# Altium footprint library Embedded.PcbLib: 34 footprints (part 2 of 3)
Each footprint in its own frame and in the unit in brackets; x right, y up, seen from the top. Pads: shape width x height; smd on the part's side, far side on the other; paste and mask are expansions set on the pad; w line width, h text height; cw(c..) or ccw(c..) is an arc to the next point about the centre after c.
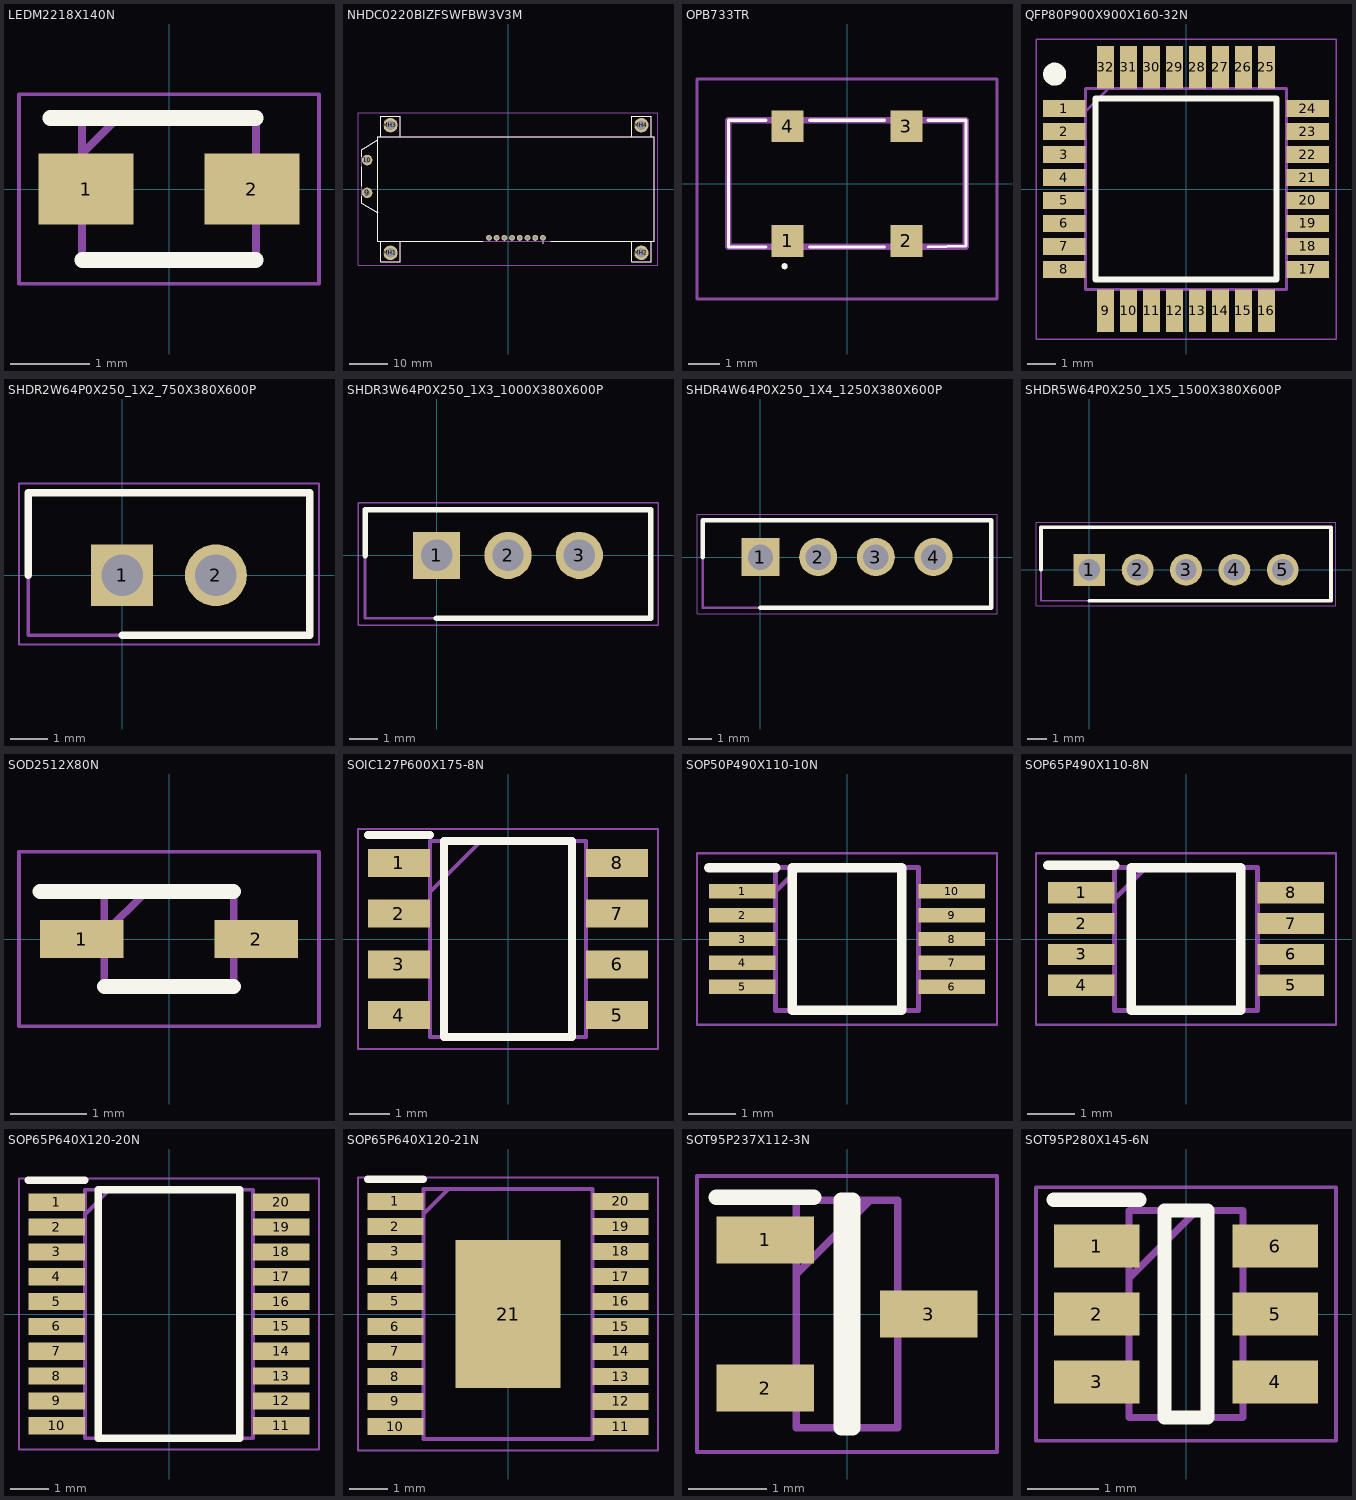
[diagram p1: the footprints below, top view; thin cyan lines are the x and y axes]

## LEDM2218X140N [mm]
pads (2):
  rect 1.2x0.9 smd: 1(-1.05,0) 2(1.05,0)
Top Overlay:
  lines w0.2: -1.5,0.9 1.1,0.9 ; -1.1,-0.9 1.1,-0.9
Mechanical 13:
  lines w0.1: -1.1,0.45 -0.65,0.9 ; -1.1,-0.9 1.1,-0.9 1.1,0.9 -1.1,0.9 -1.1,-0.9
Mechanical 15:
  lines w0.05: -1.9,-1.2 1.9,-1.2 1.9,1.2 -1.9,1.2 -1.9,-1.2

## NHDC0220BIZFSWFBW3V3M [mm]
pads (14):
  round 1.524 hole 0.98: 1(9.058,-12.65) 2(7.058,-12.65) 3(5.058,-12.65) 4(3.058,-12.65) 5(1.058,-12.65) 6(-0.942,-12.65) 7(-2.942,-12.65) 8(-4.942,-12.65)
  round 2.73 hole 1.82: 9(-36.492,-1) 10(-36.492,7.5)
  round 3.75 hole 2.5: MH1(-30.442,-16.55) MH2(34.558,-16.55) MH3(-30.442,16.55) MH4(34.558,16.55)
Top Overlay:
  lines w0.1: -37.843,-1.83 -37.843,-3.66 -33.742,-6.2 ; -37.843,0.71 -37.843,5.79 ; -37.843,8.33 -37.843,10.16 -33.742,12.7 ; -32.942,-13.55 -32.942,-18.8 -27.942,-18.8 -27.942,-13.55 ; -32.942,13.41 -32.942,18.8 -27.942,18.8 -27.942,13.55 ; -6.516,-13.55 -33.742,-13.55 -33.742,13.55 37.858,13.55 37.858,-13.55 11.088,-13.55 ; 32.058,-13.55 32.058,-18.8 37.058,-18.8 37.058,-13.55 ; 32.058,13.55 32.058,18.8 37.058,18.8 37.058,13.55
  lines w0.2: 8.958,-13.95 cw(c9.058,-13.95) 9.158,-13.95 cw(c9.058,-13.95) 8.958,-13.95
Mechanical 13:
  lines w0.2: -33.742,-6.2 -37.843,-3.66 -37.843,10.16 -33.742,12.7 ; -32.942,-13.55 -32.942,-18.8 -27.942,-18.8 -27.942,-13.55 ; -32.942,13.55 -32.942,18.8 -27.942,18.8 -27.942,13.55 ; 32.058,-13.55 32.058,-18.8 37.058,-18.8 37.058,-13.55 ; 32.058,13.55 32.058,18.8 37.058,18.8 37.058,13.55 ; -33.742,-13.55 37.858,-13.55 37.858,13.55 -33.742,13.55 -33.742,-13.55
Mechanical 15:
  lines w0.1: -38.858,-19.8 38.858,-19.8 38.858,19.8 -38.858,19.8 -38.858,-19.8

## OPB733TR [mm]
pads (4):
  rect 1.02x1.02 smd: 1(-1.905,-1.84) 2(1.905,-1.84) 3(1.905,1.84) 4(-1.905,1.84)
Top Overlay:
  lines w0.1: -2.6,-2.03 -3.8,-2.03 -3.8,2.03 -2.6,2.03 ; -1.2,-2.03 1.2,-2.03 ; -1.2,2.03 1.2,2.03 ; 2.6,-2.03 3.81,-2 3.81,2.03 2.6,2.03 ; -2,-2.7 ccw(c-2,-2.65) -2,-2.6 ccw(c-2,-2.65) -2,-2.7
Mechanical 13:
  lines w0.2: -3.81,-2.03 -3.81,2.03 3.81,2.03 3.81,-2.03 -3.81,-2.03
Mechanical 15:
  lines w0.1: -4.81,-3.7 -4.81,3.35 4.81,3.35 4.81,-3.7 -4.81,-3.7
3D body "OPB733TR.stp": height 2.99, standoff 0, extent -3.81,-2.03 3.81,2.03

## QFP80P900X900X160-32N [mm]
pads (32):
  rect 1.475x0.6 smd: 1(-4.238,2.8) 2(-4.238,2) 3(-4.238,1.2) 4(-4.238,0.4) 5(-4.238,-0.4) 6(-4.238,-1.2) 7(-4.238,-2) 8(-4.238,-2.8) 17(4.238,-2.8) 18(4.238,-2) 19(4.238,-1.2) 20(4.238,-0.4) 21(4.238,0.4) 22(4.238,1.2) 23(4.238,2) 24(4.238,2.8)
  rect 0.6x1.475 smd: 9(-2.8,-4.238) 10(-2,-4.238) 11(-1.2,-4.238) 12(-0.4,-4.238) 13(0.4,-4.238) 14(1.2,-4.238) 15(2,-4.238) 16(2.8,-4.238) 25(2.8,4.238) 26(2,4.238) 27(1.2,4.238) 28(0.4,4.238) 29(-0.4,4.238) 30(-1.2,4.238) 31(-2,4.238) 32(-2.8,4.238)
Top Overlay:
  circle w0.4: c-4.575,4 r0.2
  lines w0.2: -3.15,-3.15 3.15,-3.15 3.15,3.15 -3.15,3.15 -3.15,-3.15
Mechanical 13:
  lines w0.1: -3.5,2.7 -2.7,3.5 ; -3.5,-3.5 3.5,-3.5 3.5,3.5 -3.5,3.5 -3.5,-3.5
Mechanical 15:
  lines w0.05: -5.225,-5.225 5.225,-5.225 5.225,5.225 -5.225,5.225 -5.225,-5.225
3D body "STM32F042K4T6.stp": height 1.6, standoff 0, extent -4.5,-4.5 4.5,4.5

## SHDR2W64P0X250_1X2_750X380X600P [mm]
pads (2):
  rect 1.65x1.65 hole 1.1: 1(0,0)
  round 1.65 hole 1.1: 2(2.5,0)
Top Overlay:
  lines w0.2: -2.5,0 -2.5,2.2 5,2.2 5,-1.6 0,-1.6
Mechanical 13:
  lines w0.1: -2.5,-1.6 5,-1.6 5,2.2 -2.5,2.2 -2.5,-1.6
Mechanical 15:
  lines w0.05: -2.75,-1.85 5.25,-1.85 5.25,2.45 -2.75,2.45 -2.75,-1.85
3D body "B2B-EH-A.stp": height 6, standoff -3.2, extent -2.5,-1.9 5,1.9

## SHDR3W64P0X250_1X3_1000X380X600P [mm]
pads (3):
  rect 1.65x1.65 hole 1.1: 1(0,0)
  round 1.65 hole 1.1: 2(2.5,0) 3(5,0)
Top Overlay:
  lines w0.2: -2.5,0 -2.5,1.6 7.5,1.6 7.5,-2.2 0,-2.2
Mechanical 13:
  lines w0.1: -2.5,-2.2 7.5,-2.2 7.5,1.6 -2.5,1.6 -2.5,-2.2
Mechanical 15:
  lines w0.05: -2.75,-2.45 7.75,-2.45 7.75,1.85 -2.75,1.85 -2.75,-2.45
3D body "B3B-EH-A.stp": height 6, standoff -3.2, extent -2.5,-1.9 7.5,1.9

## SHDR4W64P0X250_1X4_1250X380X600P [mm]
pads (4):
  rect 1.65x1.65 hole 1.1: 1(0,0)
  round 1.65 hole 1.1: 2(2.5,0) 3(5,0) 4(7.5,0)
Top Overlay:
  lines w0.2: -2.5,0 -2.5,1.6 10,1.6 10,-2.2 0,-2.2
Mechanical 13:
  lines w0.1: -2.5,-2.2 10,-2.2 10,1.6 -2.5,1.6 -2.5,-2.2
Mechanical 15:
  lines w0.05: -2.75,-2.45 10.25,-2.45 10.25,1.85 -2.75,1.85 -2.75,-2.45
3D body "B4B-EH-A__LF___SN_.stp": height 6, standoff -3.2, extent -2.5,-1.9 10,1.9

## SHDR5W64P0X250_1X5_1500X380X600P [mm]
pads (5):
  rect 1.65x1.65 hole 1.1: 1(0,0)
  round 1.65 hole 1.1: 2(2.5,0) 3(5,0) 4(7.5,0) 5(10,0)
Top Overlay:
  lines w0.2: -2.5,0 -2.5,2.2 12.5,2.2 12.5,-1.6 0,-1.6
Mechanical 13:
  lines w0.1: -2.5,-1.6 12.5,-1.6 12.5,2.2 -2.5,2.2 -2.5,-1.6
Mechanical 15:
  lines w0.05: -2.75,-1.85 12.75,-1.85 12.75,2.45 -2.75,2.45 -2.75,-1.85
3D body "B5B-EH.stp": height 6, standoff -3.2, extent -2.5,-1.9 12.5,1.9

## SOD2512X80N [mm]
pads (2):
  rect 1.1x0.5 smd: 1(-1.15,0) 2(1.15,0)
Top Overlay:
  lines w0.2: -1.7,0.625 0.85,0.625 ; -0.85,-0.625 0.85,-0.625
Mechanical 13:
  lines w0.1: -0.85,0.075 -0.3,0.625 ; -0.85,-0.625 -0.85,0.625 0.85,0.625 0.85,-0.625 -0.85,-0.625
Mechanical 15:
  lines w0.05: -1.975,-1.15 -1.975,1.15 1.975,1.15 1.975,-1.15 -1.975,-1.15
3D body "PMEG4005EJ.stp": height 0.8, standoff 0, extent -1.25,-0.625 1.25,0.625

## SOIC127P600X175-8N [mm]
pads (8):
  rect 1.55x0.7 smd: 1(-2.725,1.905) 2(-2.725,0.635) 3(-2.725,-0.635) 4(-2.725,-1.905) 5(2.725,-1.905) 6(2.725,-0.635) 7(2.725,0.635) 8(2.725,1.905)
Top Overlay:
  lines w0.2: -3.5,2.605 -1.95,2.605 ; -1.6,-2.45 1.6,-2.45 1.6,2.45 -1.6,2.45 -1.6,-2.45
Mechanical 13:
  lines w0.1: -1.95,1.18 -0.68,2.45 ; -1.95,-2.45 1.95,-2.45 1.95,2.45 -1.95,2.45 -1.95,-2.45
Mechanical 15:
  lines w0.05: -3.75,-2.75 3.75,-2.75 3.75,2.75 -3.75,2.75 -3.75,-2.75
3D body "TJA1051T.stp": height 1.75, standoff 0, extent -3,-2.45 3,2.45

## SOP50P490X110-10N [mm]
pads (10):
  rect 1.4x0.3 smd: 1(-2.2,1) 2(-2.2,0.5) 3(-2.2,0) 4(-2.2,-0.5) 5(-2.2,-1) 6(2.2,-1) 7(2.2,-0.5) 8(2.2,0) 9(2.2,0.5) 10(2.2,1)
Top Overlay:
  lines w0.2: -2.9,1.5 -1.5,1.5 ; -1.15,-1.5 1.15,-1.5 1.15,1.5 -1.15,1.5 -1.15,-1.5
Mechanical 13:
  lines w0.1: -1.5,1 -1,1.5 ; -1.5,-1.5 1.5,-1.5 1.5,1.5 -1.5,1.5 -1.5,-1.5
Mechanical 15:
  lines w0.05: -3.15,-1.8 3.15,-1.8 3.15,1.8 -3.15,1.8 -3.15,-1.8
3D body "INA2181A4IDGST.stp": height 1.1, standoff 0, extent -2.45,-1.5 2.45,1.5

## SOP65P490X110-8N [mm]
pads (8):
  rect 1.4x0.45 smd: 1(-2.2,0.975) 2(-2.2,0.325) 3(-2.2,-0.325) 4(-2.2,-0.975) 5(2.2,-0.975) 6(2.2,-0.325) 7(2.2,0.325) 8(2.2,0.975)
Top Overlay:
  lines w0.2: -2.9,1.55 -1.5,1.55 ; -1.15,-1.5 -1.15,1.5 1.15,1.5 1.15,-1.5 -1.15,-1.5
Mechanical 13:
  lines w0.1: -1.5,0.85 -0.85,1.5 ; -1.5,-1.5 -1.5,1.5 1.5,1.5 1.5,-1.5 -1.5,-1.5
Mechanical 15:
  lines w0.05: -3.15,-1.8 -3.15,1.8 3.15,1.8 3.15,-1.8 -3.15,-1.8
3D body "LM74610QDGKRQ1.stp": height 1.1, standoff 0, extent -2.45,-1.5 2.45,1.5

## SOP65P640X120-20N [mm]
pads (20):
  rect 1.475x0.45 smd: 1(-2.938,2.925) 2(-2.938,2.275) 3(-2.938,1.625) 4(-2.938,0.975) 5(-2.938,0.325) 6(-2.938,-0.325) 7(-2.938,-0.975) 8(-2.938,-1.625) 9(-2.938,-2.275) 10(-2.938,-2.925) 11(2.938,-2.925) 12(2.938,-2.275) 13(2.938,-1.625) 14(2.938,-0.975) 15(2.938,-0.325) 16(2.938,0.325) 17(2.938,0.975) 18(2.938,1.625) 19(2.938,2.275) 20(2.938,2.925)
Top Overlay:
  lines w0.2: -3.675,3.5 -2.2,3.5 ; -1.85,-3.25 -1.85,3.25 1.85,3.25 1.85,-3.25 -1.85,-3.25
Mechanical 13:
  lines w0.1: -2.2,2.6 -1.55,3.25 ; -2.2,-3.25 -2.2,3.25 2.2,3.25 2.2,-3.25 -2.2,-3.25
Mechanical 15:
  lines w0.05: -3.925,-3.55 -3.925,3.55 3.925,3.55 3.925,-3.55 -3.925,-3.55
3D body "STM32F030F4P6TR.stp": height 1.2, standoff 0, extent -3.2,-3.25 3.2,3.25

## SOP65P640X120-21N [mm]
pads (21):
  rect 1.45x0.45 smd: 1(-2.925,2.925) 2(-2.925,2.275) 3(-2.925,1.625) 4(-2.925,0.975) 5(-2.925,0.325) 6(-2.925,-0.325) 7(-2.925,-0.975) 8(-2.925,-1.625) 9(-2.925,-2.275) 10(-2.925,-2.925) 11(2.925,-2.925) 12(2.925,-2.275) 13(2.925,-1.625) 14(2.925,-0.975) 15(2.925,-0.325) 16(2.925,0.325) 17(2.925,0.975) 18(2.925,1.625) 19(2.925,2.275) 20(2.925,2.925)
  rect 2.74x3.86 smd: 21(0,0)
Top Overlay:
  lines w0.2: -3.65,3.5 -2.2,3.5
Mechanical 13:
  lines w0.1: -2.2,2.6 -1.55,3.25 ; -2.2,-3.25 -2.2,3.25 2.2,3.25 2.2,-3.25 -2.2,-3.25
Mechanical 15:
  lines w0.05: -3.9,-3.55 -3.9,3.55 3.9,3.55 3.9,-3.55 -3.9,-3.55
3D body "LT3501EFE#PBF.stp": height 1.2, standoff 0, extent -3.2,-3.25 3.2,3.25

## SOT95P237X112-3N [mm]
pads (3):
  rect 1.25x0.6 smd: 1(-1.05,0.95) 2(-1.05,-0.95) 3(1.05,0)
Top Overlay:
  lines w0.2: -1.675,1.5 -0.425,1.5 ; -0.075,-1.46 -0.075,1.46 0.075,1.46 0.075,-1.46 -0.075,-1.46
Mechanical 13:
  lines w0.1: -0.65,0.51 0.3,1.46 ; -0.65,-1.46 -0.65,1.46 0.65,1.46 0.65,-1.46 -0.65,-1.46
Mechanical 15:
  lines w0.05: -1.925,-1.77 -1.925,1.77 1.925,1.77 1.925,-1.77 -1.925,-1.77
3D body "ATL432AIDBZR.stp": height 1.12, standoff 0, extent -1.185,-1.46 1.185,1.46

## SOT95P280X145-6N [mm]
pads (6):
  rect 1.2x0.6 smd: 1(-1.25,0.95) 2(-1.25,0) 3(-1.25,-0.95) 4(1.25,-0.95) 5(1.25,0) 6(1.25,0.95)
Top Overlay:
  lines w0.2: -1.85,1.6 -0.65,1.6 ; -0.3,-1.45 -0.3,1.45 0.3,1.45 0.3,-1.45 -0.3,-1.45
Mechanical 13:
  lines w0.1: -0.8,0.5 0.15,1.45 ; -0.8,-1.45 -0.8,1.45 0.8,1.45 0.8,-1.45 -0.8,-1.45
Mechanical 15:
  lines w0.05: -2.1,-1.775 -2.1,1.775 2.1,1.775 2.1,-1.775 -2.1,-1.775
3D body "LM74700QDBVRQ1.stp": height 1.45, standoff 0, extent -1.4,-1.45 1.4,1.45